# Altium schematic symbol library RK73H1JTTD1002F.SchLib: 1 symbol
Pins are listed as number, name and electrical type; pins without a type are passive.

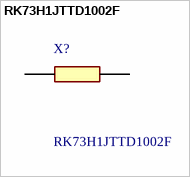
[diagram p0: symbol RK73H1JTTD1002F]

## RK73H1JTTD1002F
designator X?
Thick Film Resistors - SMD 1/10watts 10Kohms 1%; Manufacturer_Name: KOA Speer; Geometry.Height: 0.55mm; Manufacturer_Part_Number: RK73H1JTTD1002F; Mouser Part Number: 660-RK73H1JTTD1002F; Mouser Price/Stock: https://www.mouser.co.uk/ProductDetail/KOA-Speer/RK73H1JTTD1002F?qs=%252BHd4ebZ%252Bq6V15kIYdKv25A%3D%3D; Arrow Part Number: RK73H1JTTD1002F; Arrow Price/Stock: https://www.arrow.com/en/products/rk73h1jttd1002f/koa-speer-electronics?region=nac; Datasheet Link: http://www.koaspeer.com/catimages/Products/RK73-RT/RK73-RT.pdf
footprint RESC1608X55N
pins: 1, 2